# Altium footprint library CONN_HDR_2.54MM_ST.PcbLib: 159 footprints (part 2 of 13)
Each footprint in its own frame and in the unit in brackets; x right, y up, seen from the top. Pads: shape width x height; smd on the part's side, far side on the other; paste and mask are expansions set on the pad; w line width, h text height; cw(c..) or ccw(c..) is an arc to the next point about the centre after c.
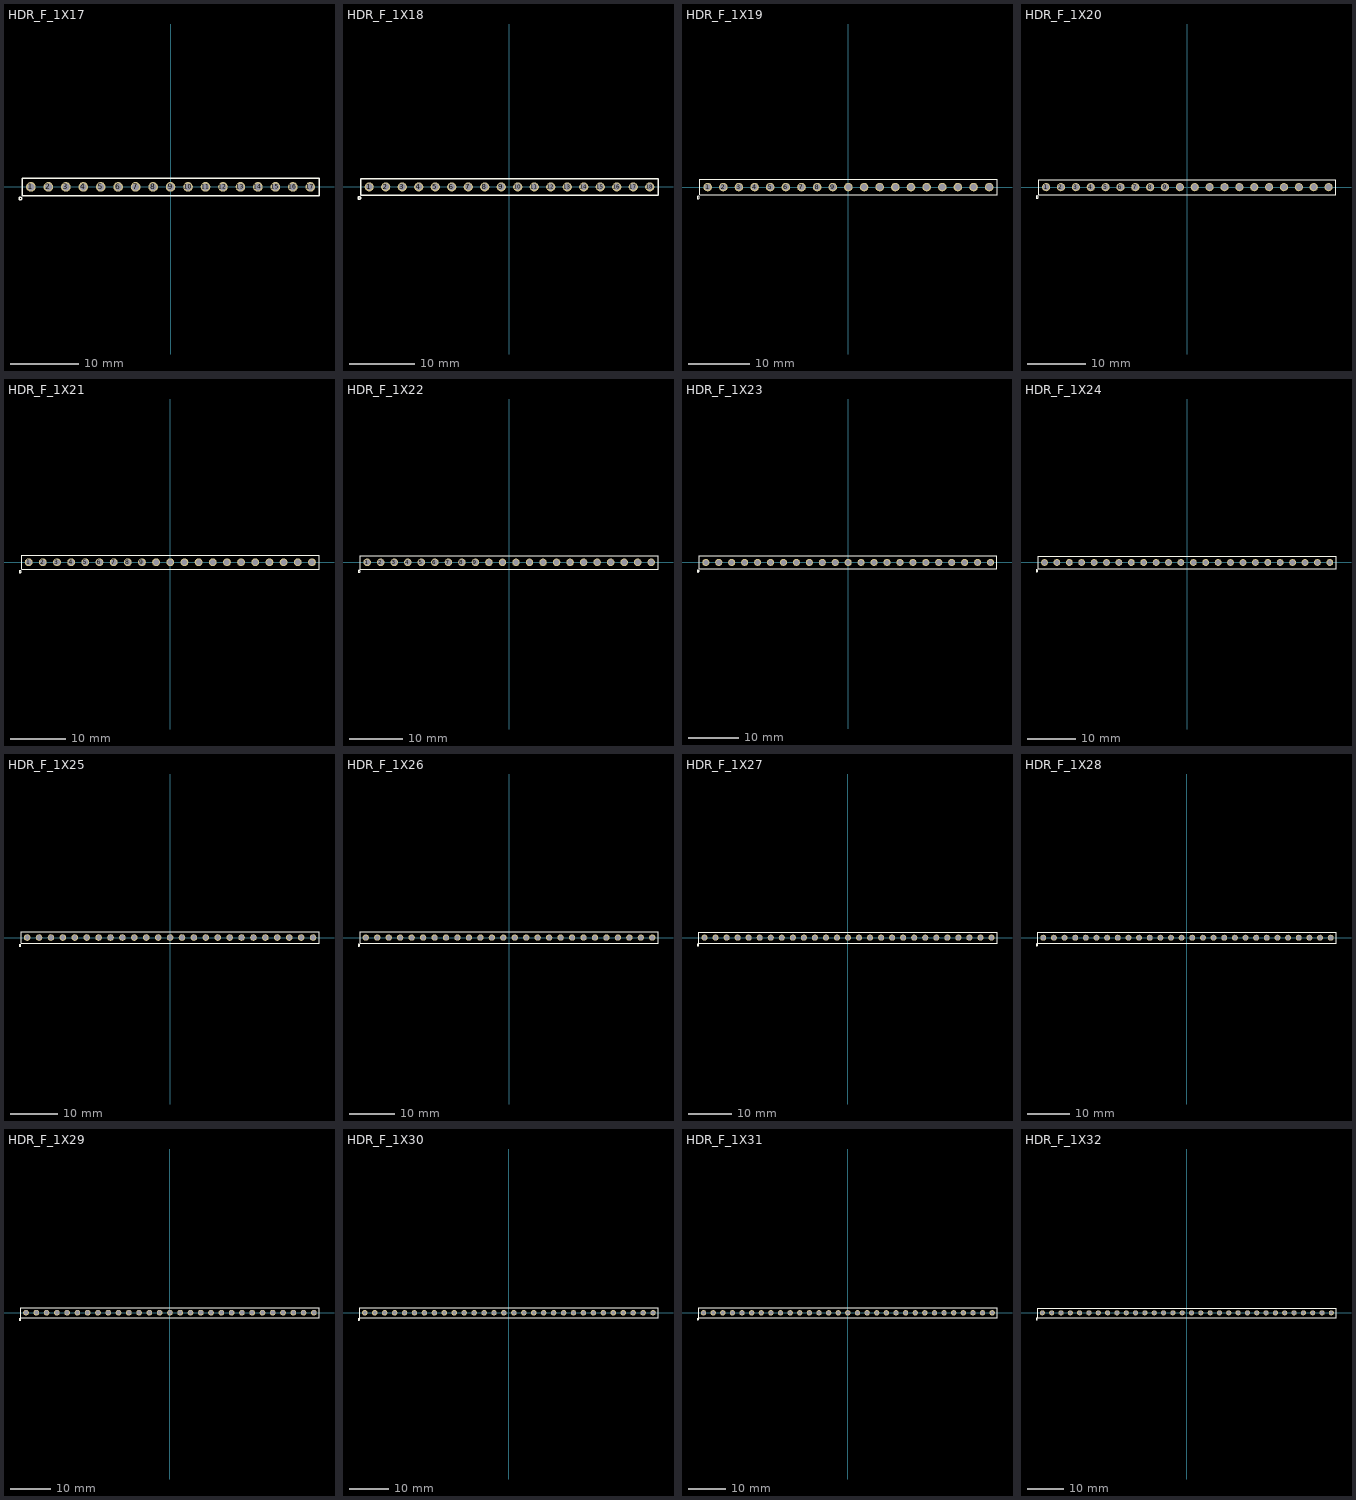
[diagram p1: the footprints below, top view; thin cyan lines are the x and y axes]

## HDR_F_1X17 [mm] "Connector; Header; 17 Position"
height 8
pads (17):
  round 1.4 / inner round 1.4 / far side oval 1.4x2.2 hole 1: 1(-20.32,0) 2(-17.78,0) 3(-15.24,0) 4(-12.7,0) 5(-10.16,0) 6(-7.62,0) 7(-5.08,0) 8(-2.54,0) 9(0,0) 10(2.54,0) 11(5.08,0) 12(7.62,0) 13(10.16,0) 14(12.7,0) 15(15.24,0) 16(17.78,0) 17(20.32,0)
TopOverlay:
  circle w0.2: c-21.85,-1.7 r0.2
  lines w0.2: -21.59,-1.27 21.59,-1.27 21.59,1.27 -21.59,1.27 -21.59,-1.27
3D body "PBS-1.stp": height 8.5, standoff -3.15, extent 19.05,-1.27 21.59,1.27
3D body "PBD-2.stp": height 8.5, standoff -3.15, extent -21.59,-1.27 -16.51,1.27
3D body "PBD-2.stp": height 8.5, standoff -3.15, extent -16.51,-1.27 -11.43,1.27
3D body "PBD-2.stp": height 8.5, standoff -3.15, extent -11.43,-1.27 -6.35,1.27
3D body "PBD-2.stp": height 8.5, standoff -3.15, extent -6.35,-1.27 -1.27,1.27
3D body "PBD-2.stp": height 8.5, standoff -3.15, extent -1.27,-1.27 3.81,1.27
3D body "PBD-2.stp": height 8.5, standoff -3.15, extent 3.81,-1.27 8.89,1.27
3D body "PBD-2.stp": height 8.5, standoff -3.15, extent 8.89,-1.27 13.97,1.27
3D body "PBD-2.stp": height 8.5, standoff -3.15, extent 13.97,-1.27 19.05,1.27

## HDR_F_1X18 [mm] "Connector; Header; 18 Position"
height 8
pads (18):
  round 1.4 / inner round 1.4 / far side oval 1.4x2.2 hole 1: 1(-21.59,0) 2(-19.05,0) 3(-16.51,0) 4(-13.97,0) 5(-11.43,0) 6(-8.89,0) 7(-6.35,0) 8(-3.81,0) 9(-1.27,0) 10(1.27,0) 11(3.81,0) 12(6.35,0) 13(8.89,0) 14(11.43,0) 15(13.97,0) 16(16.51,0) 17(19.05,0) 18(21.59,0)
TopOverlay:
  circle w0.2: c-23.12,-1.7 r0.2
  lines w0.2: -22.86,-1.27 22.86,-1.27 22.86,1.27 -22.86,1.27 -22.86,-1.27
3D body "PBD-2.stp": height 8.5, standoff -3.15, extent -22.86,-1.27 -17.78,1.27
3D body "PBD-2.stp": height 8.5, standoff -3.15, extent -17.78,-1.27 -12.7,1.27
3D body "PBD-2.stp": height 8.5, standoff -3.15, extent -12.7,-1.27 -7.62,1.27
3D body "PBD-2.stp": height 8.5, standoff -3.15, extent -7.62,-1.27 -2.54,1.27
3D body "PBD-2.stp": height 8.5, standoff -3.15, extent -2.54,-1.27 2.54,1.27
3D body "PBD-2.stp": height 8.5, standoff -3.15, extent 2.54,-1.27 7.62,1.27
3D body "PBD-2.stp": height 8.5, standoff -3.15, extent 7.62,-1.27 12.7,1.27
3D body "PBD-2.stp": height 8.5, standoff -3.15, extent 12.7,-1.27 17.78,1.27
3D body "PBD-2.stp": height 8.5, standoff -3.15, extent 17.78,-1.27 22.86,1.27

## HDR_F_1X19 [mm] "Connector; Header; 19 Position"
height 8
pads (19):
  round 1.4 / inner round 1.4 / far side oval 1.4x2.2 hole 1: 1(-22.86,0) 2(-20.32,0) 3(-17.78,0) 4(-15.24,0) 5(-12.7,0) 6(-10.16,0) 7(-7.62,0) 8(-5.08,0) 9(-2.54,0) 10(0,0) 11(2.54,0) 12(5.08,0) 13(7.62,0) 14(10.16,0) 15(12.7,0) 16(15.24,0) 17(17.78,0) 18(20.32,0) 19(22.86,0)
TopOverlay:
  circle w0.2: c-24.39,-1.7 r0.2
  lines w0.2: -24.13,-1.27 24.13,-1.27 24.13,1.27 -24.13,1.27 -24.13,-1.27
3D body "PBS-1.stp": height 8.5, standoff -3.15, extent 21.59,-1.27 24.13,1.27
3D body "PBD-2.stp": height 8.5, standoff -3.15, extent -24.13,-1.27 -19.05,1.27
3D body "PBD-2.stp": height 8.5, standoff -3.15, extent -19.05,-1.27 -13.97,1.27
3D body "PBD-2.stp": height 8.5, standoff -3.15, extent -13.97,-1.27 -8.89,1.27
3D body "PBD-2.stp": height 8.5, standoff -3.15, extent -8.89,-1.27 -3.81,1.27
3D body "PBD-2.stp": height 8.5, standoff -3.15, extent -3.81,-1.27 1.27,1.27
3D body "PBD-2.stp": height 8.5, standoff -3.15, extent 1.27,-1.27 6.35,1.27
3D body "PBD-2.stp": height 8.5, standoff -3.15, extent 6.35,-1.27 11.43,1.27
3D body "PBD-2.stp": height 8.5, standoff -3.15, extent 11.43,-1.27 16.51,1.27
3D body "PBD-2.stp": height 8.5, standoff -3.15, extent 16.51,-1.27 21.59,1.27

## HDR_F_1X20 [mm] "Connector; Header; 20 Position"
height 8
pads (20):
  round 1.4 / inner round 1.4 / far side oval 1.4x2.2 hole 1: 1(-24.13,0) 2(-21.59,0) 3(-19.05,0) 4(-16.51,0) 5(-13.97,0) 6(-11.43,0) 7(-8.89,0) 8(-6.35,0) 9(-3.81,0) 10(-1.27,0) 11(1.27,0) 12(3.81,0) 13(6.35,0) 14(8.89,0) 15(11.43,0) 16(13.97,0) 17(16.51,0) 18(19.05,0) 19(21.59,0) 20(24.13,0)
TopOverlay:
  circle w0.2: c-25.66,-1.7 r0.2
  lines w0.2: -25.4,-1.27 25.4,-1.27 25.4,1.27 -25.4,1.27 -25.4,-1.27
3D body "PBD-2.stp": height 8.5, standoff -3.15, extent -25.4,-1.27 -20.32,1.27
3D body "PBD-2.stp": height 8.5, standoff -3.15, extent -20.32,-1.27 -15.24,1.27
3D body "PBD-2.stp": height 8.5, standoff -3.15, extent -15.24,-1.27 -10.16,1.27
3D body "PBD-2.stp": height 8.5, standoff -3.15, extent -10.16,-1.27 -5.08,1.27
3D body "PBD-2.stp": height 8.5, standoff -3.15, extent -5.08,-1.27 0,1.27
3D body "PBD-2.stp": height 8.5, standoff -3.15, extent 0,-1.27 5.08,1.27
3D body "PBD-2.stp": height 8.5, standoff -3.15, extent 5.08,-1.27 10.16,1.27
3D body "PBD-2.stp": height 8.5, standoff -3.15, extent 10.16,-1.27 15.24,1.27
3D body "PBD-2.stp": height 8.5, standoff -3.15, extent 15.24,-1.27 20.32,1.27
3D body "PBD-2.stp": height 8.5, standoff -3.15, extent 20.32,-1.27 25.4,1.27

## HDR_F_1X21 [mm] "Connector; Header; 21 Position"
height 8
pads (21):
  round 1.4 / inner round 1.4 / far side oval 1.4x2.2 hole 1: 1(-25.4,0) 2(-22.86,0) 3(-20.32,0) 4(-17.78,0) 5(-15.24,0) 6(-12.7,0) 7(-10.16,0) 8(-7.62,0) 9(-5.08,0) 10(-2.54,0) 11(0,0) 12(2.54,0) 13(5.08,0) 14(7.62,0) 15(10.16,0) 16(12.7,0) 17(15.24,0) 18(17.78,0) 19(20.32,0) 20(22.86,0) 21(25.4,0)
TopOverlay:
  circle w0.2: c-26.93,-1.7 r0.2
  lines w0.2: -26.67,-1.27 -26.67,1.27 26.67,1.27 26.67,-1.27 -26.67,-1.27
3D body "PBD-2.stp": height 8.5, standoff -3.15, extent 19.05,-1.27 24.13,1.27
3D body "PBD-2.stp": height 8.5, standoff -3.15, extent 13.97,-1.27 19.05,1.27
3D body "PBD-2.stp": height 8.5, standoff -3.15, extent 8.89,-1.27 13.97,1.27
3D body "PBD-2.stp": height 8.5, standoff -3.15, extent 3.81,-1.27 8.89,1.27
3D body "PBD-2.stp": height 8.5, standoff -3.15, extent -1.27,-1.27 3.81,1.27
3D body "PBD-2.stp": height 8.5, standoff -3.15, extent -6.35,-1.27 -1.27,1.27
3D body "PBD-2.stp": height 8.5, standoff -3.15, extent -11.43,-1.27 -6.35,1.27
3D body "PBD-2.stp": height 8.5, standoff -3.15, extent -16.51,-1.27 -11.43,1.27
3D body "PBD-2.stp": height 8.5, standoff -3.15, extent -21.59,-1.27 -16.51,1.27
3D body "PBD-2.stp": height 8.5, standoff -3.15, extent -26.67,-1.27 -21.59,1.27
3D body "PBS-1.stp": height 8.5, standoff -3.15, extent 24.13,-1.27 26.67,1.27

## HDR_F_1X22 [mm] "Connector; Header; 22 Position"
height 8
pads (22):
  round 1.4 / inner round 1.4 / far side oval 1.4x2.2 hole 1: 1(-26.67,0) 2(-24.13,0) 3(-21.59,0) 4(-19.05,0) 5(-16.51,0) 6(-13.97,0) 7(-11.43,0) 8(-8.89,0) 9(-6.35,0) 10(-3.81,0) 11(-1.27,0) 12(1.27,0) 13(3.81,0) 14(6.35,0) 15(8.89,0) 16(11.43,0) 17(13.97,0) 18(16.51,0) 19(19.05,0) 20(21.59,0) 21(24.13,0) 22(26.67,0)
TopOverlay:
  circle w0.2: c-28.2,-1.7 r0.2
  lines w0.2: -27.94,-1.27 -27.94,1.27 27.94,1.27 27.94,-1.27 -27.94,-1.27
3D body "PBD-2.stp": height 8.5, standoff -3.15, extent 22.86,-1.27 27.94,1.27
3D body "PBD-2.stp": height 8.5, standoff -3.15, extent 17.78,-1.27 22.86,1.27
3D body "PBD-2.stp": height 8.5, standoff -3.15, extent 12.7,-1.27 17.78,1.27
3D body "PBD-2.stp": height 8.5, standoff -3.15, extent 7.62,-1.27 12.7,1.27
3D body "PBD-2.stp": height 8.5, standoff -3.15, extent 2.54,-1.27 7.62,1.27
3D body "PBD-2.stp": height 8.5, standoff -3.15, extent -2.54,-1.27 2.54,1.27
3D body "PBD-2.stp": height 8.5, standoff -3.15, extent -7.62,-1.27 -2.54,1.27
3D body "PBD-2.stp": height 8.5, standoff -3.15, extent -12.7,-1.27 -7.62,1.27
3D body "PBD-2.stp": height 8.5, standoff -3.15, extent -17.78,-1.27 -12.7,1.27
3D body "PBD-2.stp": height 8.5, standoff -3.15, extent -22.86,-1.27 -17.78,1.27
3D body "PBD-2.stp": height 8.5, standoff -3.15, extent -27.94,-1.27 -22.86,1.27

## HDR_F_1X23 [mm] "Connector; Header; 23 Position"
height 8
pads (23):
  round 1.4 / inner round 1.4 / far side oval 1.4x2.2 hole 1: 1(-27.94,0) 2(-25.4,0) 3(-22.86,0) 4(-20.32,0) 5(-17.78,0) 6(-15.24,0) 7(-12.7,0) 8(-10.16,0) 9(-7.62,0) 10(-5.08,0) 11(-2.54,0) 12(0,0) 13(2.54,0) 14(5.08,0) 15(7.62,0) 16(10.16,0) 17(12.7,0) 18(15.24,0) 19(17.78,0) 20(20.32,0) 21(22.86,0) 22(25.4,0) 23(27.94,0)
TopOverlay:
  circle w0.2: c-29.47,-1.7 r0.2
  lines w0.2: -29.21,-1.27 29.21,-1.27 29.21,1.27 -29.21,1.27 -29.21,-1.27
3D body "PBS-1.stp": height 8.5, standoff -3.15, extent 26.67,-1.27 29.21,1.27
3D body "PBD-2.stp": height 8.5, standoff -3.15, extent -29.21,-1.27 -24.13,1.27
3D body "PBD-2.stp": height 8.5, standoff -3.15, extent -24.13,-1.27 -19.05,1.27
3D body "PBD-2.stp": height 8.5, standoff -3.15, extent -19.05,-1.27 -13.97,1.27
3D body "PBD-2.stp": height 8.5, standoff -3.15, extent -13.97,-1.27 -8.89,1.27
3D body "PBD-2.stp": height 8.5, standoff -3.15, extent -8.89,-1.27 -3.81,1.27
3D body "PBD-2.stp": height 8.5, standoff -3.15, extent -3.81,-1.27 1.27,1.27
3D body "PBD-2.stp": height 8.5, standoff -3.15, extent 1.27,-1.27 6.35,1.27
3D body "PBD-2.stp": height 8.5, standoff -3.15, extent 6.35,-1.27 11.43,1.27
3D body "PBD-2.stp": height 8.5, standoff -3.15, extent 11.43,-1.27 16.51,1.27
3D body "PBD-2.stp": height 8.5, standoff -3.15, extent 16.51,-1.27 21.59,1.27
3D body "PBD-2.stp": height 8.5, standoff -3.15, extent 21.59,-1.27 26.67,1.27

## HDR_F_1X24 [mm] "Connector; Header; 24 Position"
height 8
pads (24):
  round 1.4 / inner round 1.4 / far side oval 1.4x2.2 hole 1: 1(-29.21,0) 2(-26.67,0) 3(-24.13,0) 4(-21.59,0) 5(-19.05,0) 6(-16.51,0) 7(-13.97,0) 8(-11.43,0) 9(-8.89,0) 10(-6.35,0) 11(-3.81,0) 12(-1.27,0) 13(1.27,0) 14(3.81,0) 15(6.35,0) 16(8.89,0) 17(11.43,0) 18(13.97,0) 19(16.51,0) 20(19.05,0) 21(21.59,0) 22(24.13,0) 23(26.67,0) 24(29.21,0)
TopOverlay:
  circle w0.2: c-30.74,-1.7 r0.2
  lines w0.2: -30.48,-1.27 30.48,-1.27 30.48,1.27 -30.48,1.27 -30.48,-1.27
3D body "PBD-2.stp": height 8.5, standoff -3.15, extent -30.48,-1.27 -25.4,1.27
3D body "PBD-2.stp": height 8.5, standoff -3.15, extent -25.4,-1.27 -20.32,1.27
3D body "PBD-2.stp": height 8.5, standoff -3.15, extent -20.32,-1.27 -15.24,1.27
3D body "PBD-2.stp": height 8.5, standoff -3.15, extent -15.24,-1.27 -10.16,1.27
3D body "PBD-2.stp": height 8.5, standoff -3.15, extent -10.16,-1.27 -5.08,1.27
3D body "PBD-2.stp": height 8.5, standoff -3.15, extent -5.08,-1.27 0,1.27
3D body "PBD-2.stp": height 8.5, standoff -3.15, extent 0,-1.27 5.08,1.27
3D body "PBD-2.stp": height 8.5, standoff -3.15, extent 5.08,-1.27 10.16,1.27
3D body "PBD-2.stp": height 8.5, standoff -3.15, extent 10.16,-1.27 15.24,1.27
3D body "PBD-2.stp": height 8.5, standoff -3.15, extent 15.24,-1.27 20.32,1.27
3D body "PBD-2.stp": height 8.5, standoff -3.15, extent 20.32,-1.27 25.4,1.27
3D body "PBD-2.stp": height 8.5, standoff -3.15, extent 25.4,-1.27 30.48,1.27

## HDR_F_1X25 [mm] "Connector; Header; 25 Position"
height 8
pads (25):
  round 1.4 / inner round 1.4 / far side oval 1.4x2.2 hole 1: 1(-30.48,0) 2(-27.94,0) 3(-25.4,0) 4(-22.86,0) 5(-20.32,0) 6(-17.78,0) 7(-15.24,0) 8(-12.7,0) 9(-10.16,0) 10(-7.62,0) 11(-5.08,0) 12(-2.54,0) 13(0,0) 14(2.54,0) 15(5.08,0) 16(7.62,0) 17(10.16,0) 18(12.7,0) 19(15.24,0) 20(17.78,0) 21(20.32,0) 22(22.86,0) 23(25.4,0) 24(27.94,0) 25(30.48,0)
TopOverlay:
  circle w0.2: c-32.01,-1.7 r0.2
  lines w0.2: -31.75,-1.27 31.75,-1.27 31.75,1.27 -31.75,1.27 -31.75,-1.27
3D body "PBD-2.stp": height 8.5, standoff -3.15, extent 24.13,-1.27 29.21,1.27
3D body "PBD-2.stp": height 8.5, standoff -3.15, extent 19.05,-1.27 24.13,1.27
3D body "PBD-2.stp": height 8.5, standoff -3.15, extent 13.97,-1.27 19.05,1.27
3D body "PBD-2.stp": height 8.5, standoff -3.15, extent 8.89,-1.27 13.97,1.27
3D body "PBD-2.stp": height 8.5, standoff -3.15, extent 3.81,-1.27 8.89,1.27
3D body "PBD-2.stp": height 8.5, standoff -3.15, extent -1.27,-1.27 3.81,1.27
3D body "PBD-2.stp": height 8.5, standoff -3.15, extent -6.35,-1.27 -1.27,1.27
3D body "PBD-2.stp": height 8.5, standoff -3.15, extent -11.43,-1.27 -6.35,1.27
3D body "PBD-2.stp": height 8.5, standoff -3.15, extent -16.51,-1.27 -11.43,1.27
3D body "PBD-2.stp": height 8.5, standoff -3.15, extent -21.59,-1.27 -16.51,1.27
3D body "PBD-2.stp": height 8.5, standoff -3.15, extent -26.67,-1.27 -21.59,1.27
3D body "PBD-2.stp": height 8.5, standoff -3.15, extent -31.75,-1.27 -26.67,1.27
3D body "PBS-1.stp": height 8.5, standoff -3.15, extent 29.21,-1.27 31.75,1.27

## HDR_F_1X26 [mm] "Connector; Header; 26 Position"
height 8
pads (26):
  round 1.4 / inner round 1.4 / far side oval 1.4x2.2 hole 1: 1(-31.75,0) 2(-29.21,0) 3(-26.67,0) 4(-24.13,0) 5(-21.59,0) 6(-19.05,0) 7(-16.51,0) 8(-13.97,0) 9(-11.43,0) 10(-8.89,0) 11(-6.35,0) 12(-3.81,0) 13(-1.27,0) 14(1.27,0) 15(3.81,0) 16(6.35,0) 17(8.89,0) 18(11.43,0) 19(13.97,0) 20(16.51,0) 21(19.05,0) 22(21.59,0) 23(24.13,0) 24(26.67,0) 25(29.21,0) 26(31.75,0)
TopOverlay:
  circle w0.2: c-33.28,-1.7 r0.2
  lines w0.2: -33.02,-1.27 -33.02,1.27 33.02,1.27 33.02,-1.27 -33.02,-1.27
3D body "PBD-2.stp": height 8.5, standoff -3.15, extent 27.94,-1.27 33.02,1.27
3D body "PBD-2.stp": height 8.5, standoff -3.15, extent 22.86,-1.27 27.94,1.27
3D body "PBD-2.stp": height 8.5, standoff -3.15, extent 17.78,-1.27 22.86,1.27
3D body "PBD-2.stp": height 8.5, standoff -3.15, extent 12.7,-1.27 17.78,1.27
3D body "PBD-2.stp": height 8.5, standoff -3.15, extent 7.62,-1.27 12.7,1.27
3D body "PBD-2.stp": height 8.5, standoff -3.15, extent 2.54,-1.27 7.62,1.27
3D body "PBD-2.stp": height 8.5, standoff -3.15, extent -2.54,-1.27 2.54,1.27
3D body "PBD-2.stp": height 8.5, standoff -3.15, extent -7.62,-1.27 -2.54,1.27
3D body "PBD-2.stp": height 8.5, standoff -3.15, extent -12.7,-1.27 -7.62,1.27
3D body "PBD-2.stp": height 8.5, standoff -3.15, extent -17.78,-1.27 -12.7,1.27
3D body "PBD-2.stp": height 8.5, standoff -3.15, extent -22.86,-1.27 -17.78,1.27
3D body "PBD-2.stp": height 8.5, standoff -3.15, extent -27.94,-1.27 -22.86,1.27
3D body "PBD-2.stp": height 8.5, standoff -3.15, extent -33.02,-1.27 -27.94,1.27

## HDR_F_1X27 [mm] "Connector; Header; 27 Position"
height 8
pads (27):
  round 1.4 / inner round 1.4 / far side oval 1.4x2.2 hole 1: 1(-33.02,0) 2(-30.48,0) 3(-27.94,0) 4(-25.4,0) 5(-22.86,0) 6(-20.32,0) 7(-17.78,0) 8(-15.24,0) 9(-12.7,0) 10(-10.16,0) 11(-7.62,0) 12(-5.08,0) 13(-2.54,0) 14(0,0) 15(2.54,0) 16(5.08,0) 17(7.62,0) 18(10.16,0) 19(12.7,0) 20(15.24,0) 21(17.78,0) 22(20.32,0) 23(22.86,0) 24(25.4,0) 25(27.94,0) 26(30.48,0) 27(33.02,0)
TopOverlay:
  circle w0.2: c-34.55,-1.7 r0.2
  lines w0.2: -34.29,-1.27 34.29,-1.27 34.29,1.27 -34.29,1.27 -34.29,-1.27
3D body "PBS-1.stp": height 8.5, standoff -3.15, extent 31.75,-1.27 34.29,1.27
3D body "PBD-2.stp": height 8.5, standoff -3.15, extent 26.67,-1.27 31.75,1.27
3D body "PBD-2.stp": height 8.5, standoff -3.15, extent 21.59,-1.27 26.67,1.27
3D body "PBD-2.stp": height 8.5, standoff -3.15, extent 16.51,-1.27 21.59,1.27
3D body "PBD-2.stp": height 8.5, standoff -3.15, extent 11.43,-1.27 16.51,1.27
3D body "PBD-2.stp": height 8.5, standoff -3.15, extent 6.35,-1.27 11.43,1.27
3D body "PBD-2.stp": height 8.5, standoff -3.15, extent 1.27,-1.27 6.35,1.27
3D body "PBD-2.stp": height 8.5, standoff -3.15, extent -3.81,-1.27 1.27,1.27
3D body "PBD-2.stp": height 8.5, standoff -3.15, extent -8.89,-1.27 -3.81,1.27
3D body "PBD-2.stp": height 8.5, standoff -3.15, extent -13.97,-1.27 -8.89,1.27
3D body "PBD-2.stp": height 8.5, standoff -3.15, extent -19.05,-1.27 -13.97,1.27
3D body "PBD-2.stp": height 8.5, standoff -3.15, extent -24.13,-1.27 -19.05,1.27
3D body "PBD-2.stp": height 8.5, standoff -3.15, extent -29.21,-1.27 -24.13,1.27
3D body "PBD-2.stp": height 8.5, standoff -3.15, extent -34.29,-1.27 -29.21,1.27

## HDR_F_1X28 [mm] "Connector; Header; 28 Position"
height 8
pads (28):
  round 1.4 / inner round 1.4 / far side oval 1.4x2.2 hole 1: 1(-34.29,0) 2(-31.75,0) 3(-29.21,0) 4(-26.67,0) 5(-24.13,0) 6(-21.59,0) 7(-19.05,0) 8(-16.51,0) 9(-13.97,0) 10(-11.43,0) 11(-8.89,0) 12(-6.35,0) 13(-3.81,0) 14(-1.27,0) 15(1.27,0) 16(3.81,0) 17(6.35,0) 18(8.89,0) 19(11.43,0) 20(13.97,0) 21(16.51,0) 22(19.05,0) 23(21.59,0) 24(24.13,0) 25(26.67,0) 26(29.21,0) 27(31.75,0) 28(34.29,0)
TopOverlay:
  circle w0.2: c-35.82,-1.7 r0.2
  lines w0.2: -35.56,-1.27 35.56,-1.27 35.56,1.27 -35.56,1.27 -35.56,-1.27
3D body "PBD-2.stp": height 8.5, standoff -3.15, extent -35.56,-1.27 -30.48,1.27
3D body "PBD-2.stp": height 8.5, standoff -3.15, extent -30.48,-1.27 -25.4,1.27
3D body "PBD-2.stp": height 8.5, standoff -3.15, extent -25.4,-1.27 -20.32,1.27
3D body "PBD-2.stp": height 8.5, standoff -3.15, extent -20.32,-1.27 -15.24,1.27
3D body "PBD-2.stp": height 8.5, standoff -3.15, extent -15.24,-1.27 -10.16,1.27
3D body "PBD-2.stp": height 8.5, standoff -3.15, extent -10.16,-1.27 -5.08,1.27
3D body "PBD-2.stp": height 8.5, standoff -3.15, extent -5.08,-1.27 0,1.27
3D body "PBD-2.stp": height 8.5, standoff -3.15, extent 0,-1.27 5.08,1.27
3D body "PBD-2.stp": height 8.5, standoff -3.15, extent 5.08,-1.27 10.16,1.27
3D body "PBD-2.stp": height 8.5, standoff -3.15, extent 10.16,-1.27 15.24,1.27
3D body "PBD-2.stp": height 8.5, standoff -3.15, extent 15.24,-1.27 20.32,1.27
3D body "PBD-2.stp": height 8.5, standoff -3.15, extent 20.32,-1.27 25.4,1.27
3D body "PBD-2.stp": height 8.5, standoff -3.15, extent 25.4,-1.27 30.48,1.27
3D body "PBD-2.stp": height 8.5, standoff -3.15, extent 30.48,-1.27 35.56,1.27

## HDR_F_1X29 [mm] "Connector; Header; 29 Position"
height 8
pads (29):
  round 1.4 / inner round 1.4 / far side oval 1.4x2.2 hole 1: 1(-35.56,0) 2(-33.02,0) 3(-30.48,0) 4(-27.94,0) 5(-25.4,0) 6(-22.86,0) 7(-20.32,0) 8(-17.78,0) 9(-15.24,0) 10(-12.7,0) 11(-10.16,0) 12(-7.62,0) 13(-5.08,0) 14(-2.54,0) 15(0,0) 16(2.54,0) 17(5.08,0) 18(7.62,0) 19(10.16,0) 20(12.7,0) 21(15.24,0) 22(17.78,0) 23(20.32,0) 24(22.86,0) 25(25.4,0) 26(27.94,0) 27(30.48,0) 28(33.02,0) 29(35.56,0)
TopOverlay:
  circle w0.2: c-37.09,-1.7 r0.2
  lines w0.2: -36.83,-1.27 -36.83,1.27 36.83,1.27 36.83,-1.27 -36.83,-1.27
3D body "PBD-2.stp": height 8.5, standoff -3.15, extent 29.21,-1.27 34.29,1.27
3D body "PBD-2.stp": height 8.5, standoff -3.15, extent 24.13,-1.27 29.21,1.27
3D body "PBD-2.stp": height 8.5, standoff -3.15, extent 19.05,-1.27 24.13,1.27
3D body "PBD-2.stp": height 8.5, standoff -3.15, extent 13.97,-1.27 19.05,1.27
3D body "PBD-2.stp": height 8.5, standoff -3.15, extent 8.89,-1.27 13.97,1.27
3D body "PBD-2.stp": height 8.5, standoff -3.15, extent 3.81,-1.27 8.89,1.27
3D body "PBD-2.stp": height 8.5, standoff -3.15, extent -1.27,-1.27 3.81,1.27
3D body "PBD-2.stp": height 8.5, standoff -3.15, extent -6.35,-1.27 -1.27,1.27
3D body "PBD-2.stp": height 8.5, standoff -3.15, extent -11.43,-1.27 -6.35,1.27
3D body "PBD-2.stp": height 8.5, standoff -3.15, extent -16.51,-1.27 -11.43,1.27
3D body "PBD-2.stp": height 8.5, standoff -3.15, extent -21.59,-1.27 -16.51,1.27
3D body "PBD-2.stp": height 8.5, standoff -3.15, extent -26.67,-1.27 -21.59,1.27
3D body "PBD-2.stp": height 8.5, standoff -3.15, extent -31.75,-1.27 -26.67,1.27
3D body "PBD-2.stp": height 8.5, standoff -3.15, extent -36.83,-1.27 -31.75,1.27
3D body "PBS-1.stp": height 8.5, standoff -3.15, extent 34.29,-1.27 36.83,1.27

## HDR_F_1X30 [mm] "Connector; Header; 30 Position"
height 8
pads (30):
  round 1.4 / inner round 1.4 / far side oval 1.4x2.2 hole 1: 1(-36.83,0) 2(-34.29,0) 3(-31.75,0) 4(-29.21,0) 5(-26.67,0) 6(-24.13,0) 7(-21.59,0) 8(-19.05,0) 9(-16.51,0) 10(-13.97,0) 11(-11.43,0) 12(-8.89,0) 13(-6.35,0) 14(-3.81,0) 15(-1.27,0) 16(1.27,0) 17(3.81,0) 18(6.35,0) 19(8.89,0) 20(11.43,0) 21(13.97,0) 22(16.51,0) 23(19.05,0) 24(21.59,0) 25(24.13,0) 26(26.67,0) 27(29.21,0) 28(31.75,0) 29(34.29,0) 30(36.83,0)
TopOverlay:
  circle w0.2: c-38.36,-1.7 r0.2
  lines w0.2: -38.1,-1.27 38.1,-1.27 38.1,1.27 -38.1,1.27 -38.1,-1.27
3D body "PBD-2.stp": height 8.5, standoff -3.15, extent -38.1,-1.27 -33.02,1.27
3D body "PBD-2.stp": height 8.5, standoff -3.15, extent -33.02,-1.27 -27.94,1.27
3D body "PBD-2.stp": height 8.5, standoff -3.15, extent -27.94,-1.27 -22.86,1.27
3D body "PBD-2.stp": height 8.5, standoff -3.15, extent -22.86,-1.27 -17.78,1.27
3D body "PBD-2.stp": height 8.5, standoff -3.15, extent -17.78,-1.27 -12.7,1.27
3D body "PBD-2.stp": height 8.5, standoff -3.15, extent -12.7,-1.27 -7.62,1.27
3D body "PBD-2.stp": height 8.5, standoff -3.15, extent -7.62,-1.27 -2.54,1.27
3D body "PBD-2.stp": height 8.5, standoff -3.15, extent -2.54,-1.27 2.54,1.27
3D body "PBD-2.stp": height 8.5, standoff -3.15, extent 2.54,-1.27 7.62,1.27
3D body "PBD-2.stp": height 8.5, standoff -3.15, extent 7.62,-1.27 12.7,1.27
3D body "PBD-2.stp": height 8.5, standoff -3.15, extent 12.7,-1.27 17.78,1.27
3D body "PBD-2.stp": height 8.5, standoff -3.15, extent 17.78,-1.27 22.86,1.27
3D body "PBD-2.stp": height 8.5, standoff -3.15, extent 22.86,-1.27 27.94,1.27
3D body "PBD-2.stp": height 8.5, standoff -3.15, extent 27.94,-1.27 33.02,1.27
3D body "PBD-2.stp": height 8.5, standoff -3.15, extent 33.02,-1.27 38.1,1.27

## HDR_F_1X31 [mm] "Connector; Header; 31 Position"
height 8
pads (31):
  round 1.4 / inner round 1.4 / far side oval 1.4x2.2 hole 1: 1(-38.1,0) 2(-35.56,0) 3(-33.02,0) 4(-30.48,0) 5(-27.94,0) 6(-25.4,0) 7(-22.86,0) 8(-20.32,0) 9(-17.78,0) 10(-15.24,0) 11(-12.7,0) 12(-10.16,0) 13(-7.62,0) 14(-5.08,0) 15(-2.54,0) 16(0,0) 17(2.54,0) 18(5.08,0) 19(7.62,0) 20(10.16,0) 21(12.7,0) 22(15.24,0) 23(17.78,0) 24(20.32,0) 25(22.86,0) 26(25.4,0) 27(27.94,0) 28(30.48,0) 29(33.02,0) 30(35.56,0) 31(38.1,0)
TopOverlay:
  circle w0.2: c-39.63,-1.7 r0.2
  lines w0.2: -39.37,-1.27 -39.37,1.27 39.37,1.27 39.37,-1.27 -39.37,-1.27
3D body "PBD-2.stp": height 8.5, standoff -3.15, extent 31.75,-1.27 36.83,1.27
3D body "PBD-2.stp": height 8.5, standoff -3.15, extent 26.67,-1.27 31.75,1.27
3D body "PBD-2.stp": height 8.5, standoff -3.15, extent 21.59,-1.27 26.67,1.27
3D body "PBD-2.stp": height 8.5, standoff -3.15, extent 16.51,-1.27 21.59,1.27
3D body "PBD-2.stp": height 8.5, standoff -3.15, extent 11.43,-1.27 16.51,1.27
3D body "PBD-2.stp": height 8.5, standoff -3.15, extent 6.35,-1.27 11.43,1.27
3D body "PBD-2.stp": height 8.5, standoff -3.15, extent 1.27,-1.27 6.35,1.27
3D body "PBD-2.stp": height 8.5, standoff -3.15, extent -3.81,-1.27 1.27,1.27
3D body "PBD-2.stp": height 8.5, standoff -3.15, extent -8.89,-1.27 -3.81,1.27
3D body "PBD-2.stp": height 8.5, standoff -3.15, extent -13.97,-1.27 -8.89,1.27
3D body "PBD-2.stp": height 8.5, standoff -3.15, extent -19.05,-1.27 -13.97,1.27
3D body "PBD-2.stp": height 8.5, standoff -3.15, extent -24.13,-1.27 -19.05,1.27
3D body "PBD-2.stp": height 8.5, standoff -3.15, extent -29.21,-1.27 -24.13,1.27
3D body "PBD-2.stp": height 8.5, standoff -3.15, extent -34.29,-1.27 -29.21,1.27
3D body "PBD-2.stp": height 8.5, standoff -3.15, extent -39.37,-1.27 -34.29,1.27
3D body "PBS-1.stp": height 8.5, standoff -3.15, extent 36.83,-1.27 39.37,1.27

## HDR_F_1X32 [mm] "Connector; Header; 32 Position"
height 8
pads (32):
  round 1.4 / inner round 1.4 / far side oval 1.4x2.2 hole 1: 1(-39.37,0) 2(-36.83,0) 3(-34.29,0) 4(-31.75,0) 5(-29.21,0) 6(-26.67,0) 7(-24.13,0) 8(-21.59,0) 9(-19.05,0) 10(-16.51,0) 11(-13.97,0) 12(-11.43,0) 13(-8.89,0) 14(-6.35,0) 15(-3.81,0) 16(-1.27,0) 17(1.27,0) 18(3.81,0) 19(6.35,0) 20(8.89,0) 21(11.43,0) 22(13.97,0) 23(16.51,0) 24(19.05,0) 25(21.59,0) 26(24.13,0) 27(26.67,0) 28(29.21,0) 29(31.75,0) 30(34.29,0) 31(36.83,0) 32(39.37,0)
TopOverlay:
  circle w0.2: c-40.9,-1.7 r0.2
  lines w0.2: -40.64,-1.27 40.64,-1.27 40.64,1.27 -40.64,1.27 -40.64,-1.27
3D body "PBD-2.stp": height 8.5, standoff -3.15, extent -40.64,-1.27 -35.56,1.27
3D body "PBD-2.stp": height 8.5, standoff -3.15, extent -35.56,-1.27 -30.48,1.27
3D body "PBD-2.stp": height 8.5, standoff -3.15, extent -30.48,-1.27 -25.4,1.27
3D body "PBD-2.stp": height 8.5, standoff -3.15, extent -25.4,-1.27 -20.32,1.27
3D body "PBD-2.stp": height 8.5, standoff -3.15, extent -20.32,-1.27 -15.24,1.27
3D body "PBD-2.stp": height 8.5, standoff -3.15, extent -15.24,-1.27 -10.16,1.27
3D body "PBD-2.stp": height 8.5, standoff -3.15, extent -10.16,-1.27 -5.08,1.27
3D body "PBD-2.stp": height 8.5, standoff -3.15, extent -5.08,-1.27 0,1.27
3D body "PBD-2.stp": height 8.5, standoff -3.15, extent 0,-1.27 5.08,1.27
3D body "PBD-2.stp": height 8.5, standoff -3.15, extent 5.08,-1.27 10.16,1.27
3D body "PBD-2.stp": height 8.5, standoff -3.15, extent 10.16,-1.27 15.24,1.27
3D body "PBD-2.stp": height 8.5, standoff -3.15, extent 15.24,-1.27 20.32,1.27
3D body "PBD-2.stp": height 8.5, standoff -3.15, extent 20.32,-1.27 25.4,1.27
3D body "PBD-2.stp": height 8.5, standoff -3.15, extent 25.4,-1.27 30.48,1.27
3D body "PBD-2.stp": height 8.5, standoff -3.15, extent 30.48,-1.27 35.56,1.27
3D body "PBD-2.stp": height 8.5, standoff -3.15, extent 35.56,-1.27 40.64,1.27